# Altium schematic symbol library TPS2373-4RGWR.SchLib: 1 symbol
Pins are listed as number, name and electrical type; pins without a type are passive.

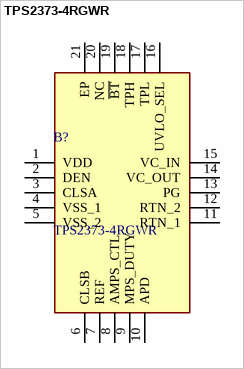
[diagram p0: symbol TPS2373-4RGWR]

## TPS2373-4RGWR
designator B?
IEEE 802.3bt PoE High-Power PD Interface with Advanced Startup; Manufacturer_Name: Texas Instruments; Geometry.Height: 1mm; Mouser Part Number: 595-TPS2373-4RGWR; Mouser Price/Stock: https://www.mouser.co.uk/ProductDetail/Texas-Instruments/TPS2373-4RGWR?qs=AQlKX63v8Rvi%2FgD3UVXVLg%3D%3D; Manufacturer_Part_Number: TPS2373-4RGWR; Datasheet Link: http://www.ti.com/lit/gpn/tps2373
footprint QFN65P500X500X100-21N
pins: 1 VDD, 2 DEN, 3 CLSA, 4 VSS_1, 5 VSS_2, 6 CLSB, 7 REF, 8 AMPS_CTL, 9 MPS_DUTY, 10 APD, 11 RTN_1, 12 RTN_2, 13 PG, 14 VC_OUT, 15 VC_IN, 16 UVLO_SEL, 17 TPL, 18 TPH, 19 ~{BT}, 20 NC, 21 EP